# Altium footprint library diode.PcbLib: 10 footprints
Each footprint in its own frame and in the unit in brackets; x right, y up, seen from the top. Pads: shape width x height; smd on the part's side, far side on the other; paste and mask are expansions set on the pad; w line width, h text height; cw(c..) or ccw(c..) is an arc to the next point about the centre after c.
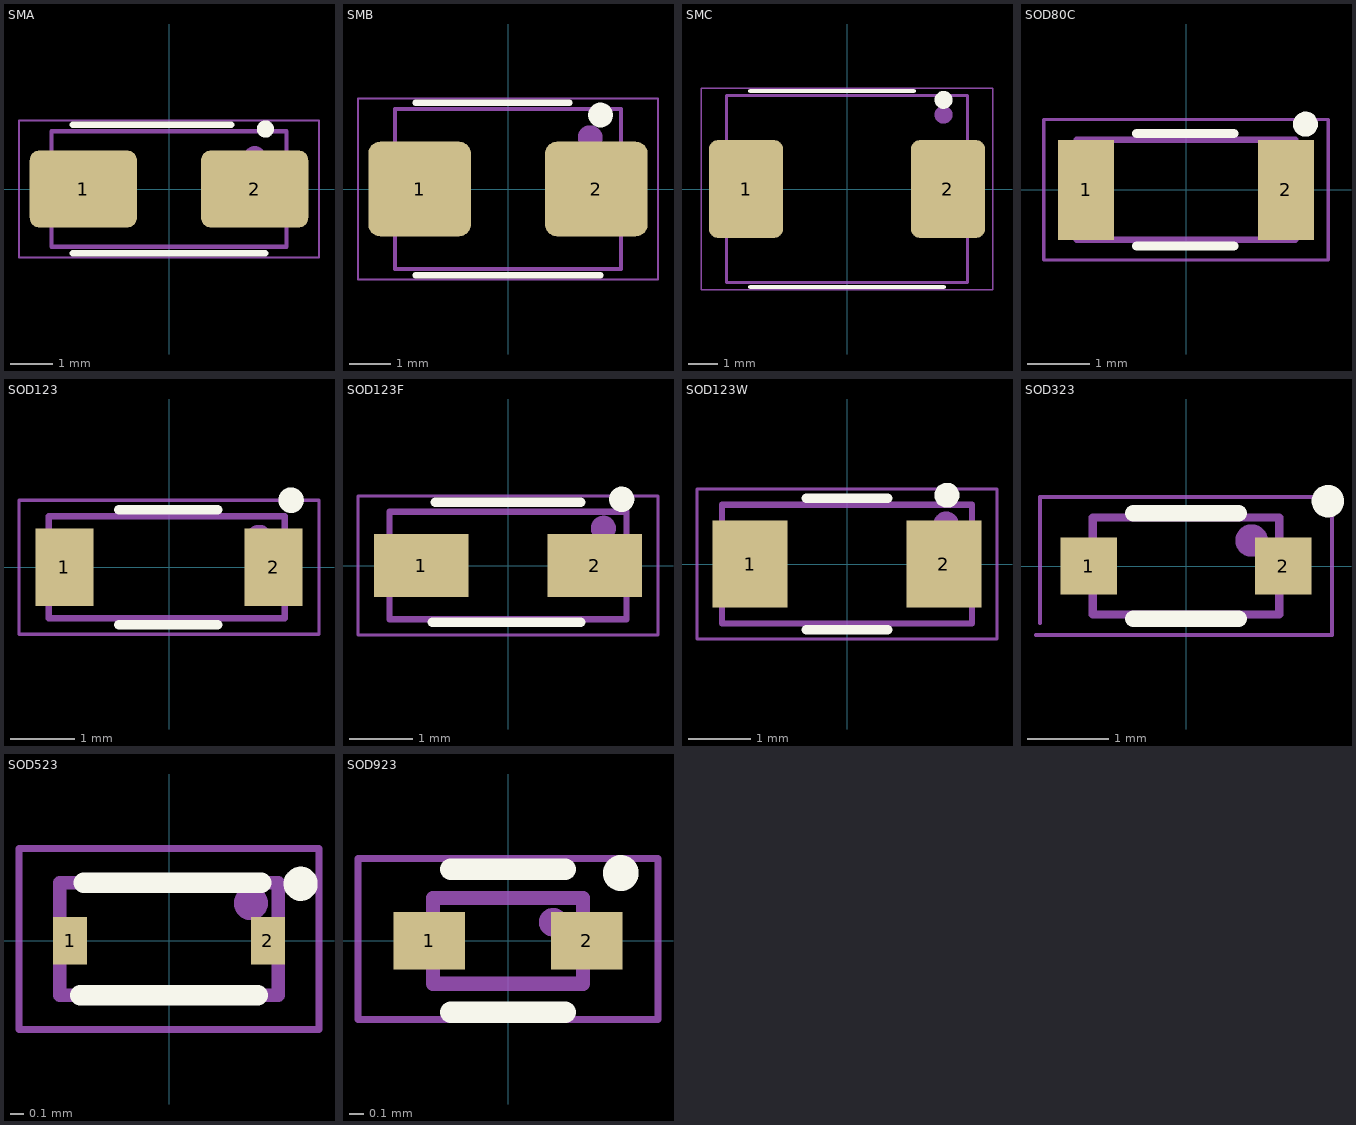
[diagram p0: the footprints below, top view; thin cyan lines are the x and y axes]

## SMA [mm] "DO214AC, 2-Leads, Body 5,0x2,6mm, IPC Medium Density"
height 2.7
pads (2):
  rrect25% 2.5x1.8 smd: 1(-2,0) 2(2,0)
Top Overlay:
  circle w0.2: c2.25,1.4 r0.1
  lines w0.15: -2.25,-1.5 2.25,-1.5 ; -2.25,1.5 1.45,1.5
Top Assy:
  circle w0.3: c2,0.75 r0.1
  lines w0.1: -2.743,-1.35 2.743,-1.35 2.743,1.35 -2.743,1.35 -2.743,-1.35
  text ".Designator" at -2.431,-0.402 h1
Top Cortyard:
  lines w0.05: -3.5,-1.6 -3.5,1.6 3.5,1.6 3.5,-1.6 -3.5,-1.6
3D body "DO-214AC(SMA).step": height 2.24, standoff -0.04, extent -2.743,-1.397 2.743,1.397

## SMB [mm] "DO214AA"
height 4
pads (2):
  rrect25% 2.5x2.3 smd: 1(-2.15,0) 2(2.15,0)
Top Overlay:
  circle w0.4: c2.25,1.8 r0.1
  lines w0.15: -2.25,-2.1 2.25,-2.1 ; -2.25,2.1 1.5,2.1
Top Assy:
  circle w0.4: c2,1.25 r0.1
  lines w0.1: -2.75,-1.95 2.75,-1.95 2.75,1.95 -2.75,1.95 -2.75,-1.95
  text ".Designator" at -2.106,-0.527 h1
Top Cortyard:
  lines w0.05: -3.65,-2.2 -3.65,2.2 3.65,2.2 3.65,-2.2 -3.65,-2.2
3D body "User Library-DIOM5539X24.STEP": height 2.45, standoff 0.03, extent -2.75,-1.95 2.75,1.95

## SMC [mm] "DO214AB, Body 5.9x6.9mm"
height 2.5
pads (2):
  rrect25% 2.5x3.3 smd: 1(-3.4,0) 2(3.4,0)
Top Overlay:
  circle w0.4: c3.25,3 r0.1
  lines w0.15: -3.25,-3.3 3.25,-3.3 ; -3.25,3.3 2.25,3.3
Top Assy:
  circle w0.4: c3.25,2.5 r0.1
  lines w0.1: -4.064,-3.15 4.064,-3.15 4.064,3.15 -4.064,3.15 -4.064,-3.15
  text ".Designator" at -3.489,-0.605 h1
Top Cortyard:
  lines w0.05: -4.9,-3.4 -4.9,3.4 4.9,3.4 4.9,-3.4 -4.9,-3.4
3D body "User Library-DO-214AB(SMC).STEP": height 2.67, standoff 0.03, extent -4.064,-3.15 4.064,3.149

## SOD80C [mm]
pads (2):
  rect 0.9x1.6 smd: 1(-1.6,0) 2(1.6,0)
Top Overlay:
  circle w0.2: c1.913,1.05 r0.1
  lines w0.15: -0.787,-0.9 0.763,-0.9 ; -0.787,0.9 0.763,0.9
Top Assy:
  circle w0.2: c1.41,0.464 r0.1
  lines w0.1: -1.75,-0.8 1.75,-0.8 1.75,0.8 -1.75,0.8 -1.75,-0.8
  text ".Designator" at -1.613,-0.444 h0.8
Top Cortyard:
  lines w0.05: -2.275,-1.125 2.275,-1.125 2.275,1.125 -2.275,1.125 -2.275,-1.125
3D body "SOD80C.step": height 1.51, standoff -0.01, extent -1.75,-0.763 1.75,0.763

## SOD123 [mm]
pads (2):
  rect 0.91x1.22 smd: 1(-1.637,0) 2(1.637,0)
Top Overlay:
  circle w0.2: c1.913,1.05 r0.1
  lines w0.15: -0.787,-0.9 0.763,-0.9 ; -0.787,0.9 0.763,0.9
Top Assy:
  circle w0.2: c1.41,0.464 r0.1
  lines w0.1: -1.886,-0.8 1.812,-0.8 1.812,0.8 -1.886,0.8 -1.886,-0.8
  text ".Designator" at -1.613,-0.444 h0.8
Top Cortyard:
  lines w0.05: -2.35,-1.05 -2.35,1.05 2.35,1.05 2.35,-1.05 -2.35,-1.05
3D body "User Library-SOD-123.STEP": height 1.25, standoff 0, extent -1.887,-0.8 1.811,0.8

## SOD123F [mm] "Schottky Diode, 2-Leads, Body 3x2mm, 0.4W"
height 1
pads (2):
  rect 1.5x1 smd: 1(-1.375,0) 2(1.375,0)
Top Overlay:
  circle w0.2: c1.8,1.05 r0.1
  lines w0.15: -1.2,-0.9 1.15,-0.9 ; -1.15,1 1.15,1
Top Assy:
  circle w0.2: c1.51,0.589 r0.1
  lines w0.1: -1.875,-0.85 -1.875,0.85 1.875,0.85 1.875,-0.85 -1.875,-0.85
  text ".Designator" at -1.663,-0.419 h0.8
Top Cortyard:
  lines w0.05: -2.375,-1.1 2.375,-1.1 2.375,1.1 -2.375,1.1 -2.375,-1.1
3D body "SOD123F.STEP": height 1.23, standoff 0.02, extent -1.875,-0.85 1.875,0.85

## SOD123W [mm]
pads (2):
  rect 1.2x1.4 smd: 1(-1.55,0) 2(1.55,0)
Top Overlay:
  circle w0.2: c1.6,1.1 r0.1
  lines w0.15: -0.65,-1.05 0.65,-1.05 ; -0.65,1.05 0.65,1.05
Top Assy:
  circle w0.2: c1.585,0.639 r0.1
  lines w0.1: 2,-0.95 2,0.95 ; 2,-0.95 2,-0.95 ; 2,-0.95 -2,-0.95 -2,0.95 2,0.95 ; 2,0.95 2,0.95
  text ".Designator" at -1.763,-0.369 h0.8
Top Cortyard:
  lines w0.05: -2.4,-1.2 -2.4,1.2 2.4,1.2 2.4,-1.2 -2.4,-1.2
3D body "User Library-SOD123W.STEP": height 1.1, standoff -0.01, extent -2,-0.95 2,0.95

## SOD323 [mm]
pads (2):
  rect 0.7x0.7 smd: 1(-1.2,0) 2(1.2,0)
Top Overlay:
  circle w0.2: c1.75,0.8 r0.1
  lines w0.2: -0.65,-0.65 0.65,-0.65 ; -0.65,0.65 0.65,0.65
Top Assy:
  circle w0.2: c0.81,0.314 r0.1
  lines w0.1: -1.15,-0.6 1.15,-0.6 1.15,0.6 -1.15,0.6 -1.15,-0.6
  text ".Designator" at -0.778,-0.262 h0.5
Top Cortyard:
  lines w0.05: -1.85,-0.85 1.8,-0.85 1.8,0.7 ; -1.8,-0.7 -1.8,0.85 1.85,0.85
3D body "User Library-1N4148WS.STEP": height 1.04, standoff -0.06, extent -1.15,-0.6 1.15,0.6

## SOD523 [mm]
pads (2):
  rect 0.25x0.35 smd: 1(-0.725,0) 2(0.725,0)
Top Overlay:
  circle w0.15: c0.966,0.418 r0.05
  lines w0.15: -0.65,-0.4 0.65,-0.4 ; -0.625,0.425 0.675,0.425
Top Assy:
  circle w0.15: c0.6,0.275 r0.05
  lines w0.1: -0.8,-0.4 -0.8,0.425 0.8,0.425 0.8,-0.4 -0.8,-0.4
  text ".Designator" at -0.375,-0.158 h0.35
Top Cortyard:
  lines w0.05: -1.1,-0.65 1.1,-0.65 1.1,0.675 -1.1,0.675 -1.1,-0.65
3D body "SOD523.step": height 0.58, standoff -0.03, extent -0.8,-0.4 0.8,0.43

## SOD923 [mm]
pads (2):
  rect 0.5x0.4 smd: 1(-0.55,0) 2(0.55,0)
Top Overlay:
  circle w0.2: c0.79,0.474 r0.025
  lines w0.15: -0.4,-0.5 0.4,-0.5 ; -0.4,0.5 0.4,0.5
Top Assy:
  circle w0.1: c0.316,0.13 r0.05
  lines w0.1: -0.525,-0.3 -0.525,0.3 0.525,0.3 0.525,-0.3 -0.525,-0.3
  text ".Designator" at -0.404,-0.138 h0.3
Top Cortyard:
  lines w0.05: -1.05,-0.55 -1.05,0.575 1.05,0.575 1.05,-0.55 -1.05,-0.55
3D body "User Library-DIODE_SOD-923.step": height 0.43, standoff 0, extent -0.525,-0.325 0.525,0.325